# EAGLE library part MP4541GN-Z (library MP4541GN-Z)
Switching Voltage Regulators 80V, 0.8A Synchronous Buck Converter Source: Datasheet <https://www.monolithicpower.com/en/documentview/productdocument/index/version/2/document_type/Datasheet/lang/en/sku/MP4541GN/>
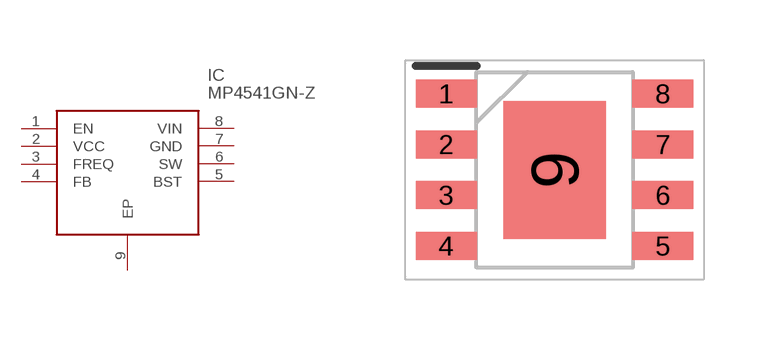
[diagram p0: symbol with the pads of SOIC127P600X170-9N; footprint SOIC127P600X170-9N]

Designator prefix IC

## MP4541GN-Z (Description: Switching Voltage Regulators 80V, 0.8A Synchronous Buck Converter; Height: 1.7mm; Manufacturer_Name: Monolithic Power Systems (MPS); Manufacturer_Part_Number: MP4541GN-Z; Mouser_Part_Number: 946-MP4541GN-Z; Mouser_Price-Stock: https://www.mouser.co.uk/ProductDetail/Monolithic-Power-Systems-MPS/MP4541GN-Z?qs=TCDPyi3sCW3JrMFxnpK4AA%3D%3D)  [SOIC127P600X170-9N]
1  EN
2  VCC
3  FREQ
4  FB
5  BST
6  SW
7  GND
8  VIN
9  EP

## Footprint SOIC127P600X170-9N (pad centres in mm)
SOIC-8 EP-
smd 1.525 x 0.7: 1 -2.712,1.905; 2 -2.712,0.635; 3 -2.712,-0.635; 4 -2.712,-1.905; 5 2.712,-1.905; 6 2.712,-0.635; 7 2.712,0.635; 8 2.712,1.905
smd 2.56 x 3.45: 9 0,0